# Altium schematic symbol library MOUNTING-HOLES-NON-PLATED-3MM.SchLib: 1 symbol
Pins are listed as number, name and electrical type; pins without a type are passive.

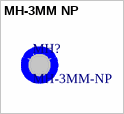
[diagram p0: symbol MH-3MM NP]

## MH-3MM NP
designator MH?, comment MH-3MM-NP
Mounting Hole 3mm Non-Plated
footprint MH-3MM-NP